# Altium footprint library 4.00-1.27mm排针-排母.PcbLib: 14 footprints
Each footprint in its own frame and in the unit in brackets; x right, y up, seen from the top. Pads: shape width x height; smd on the part's side, far side on the other; paste and mask are expansions set on the pad; w line width, h text height; cw(c..) or ccw(c..) is an arc to the next point about the centre after c.
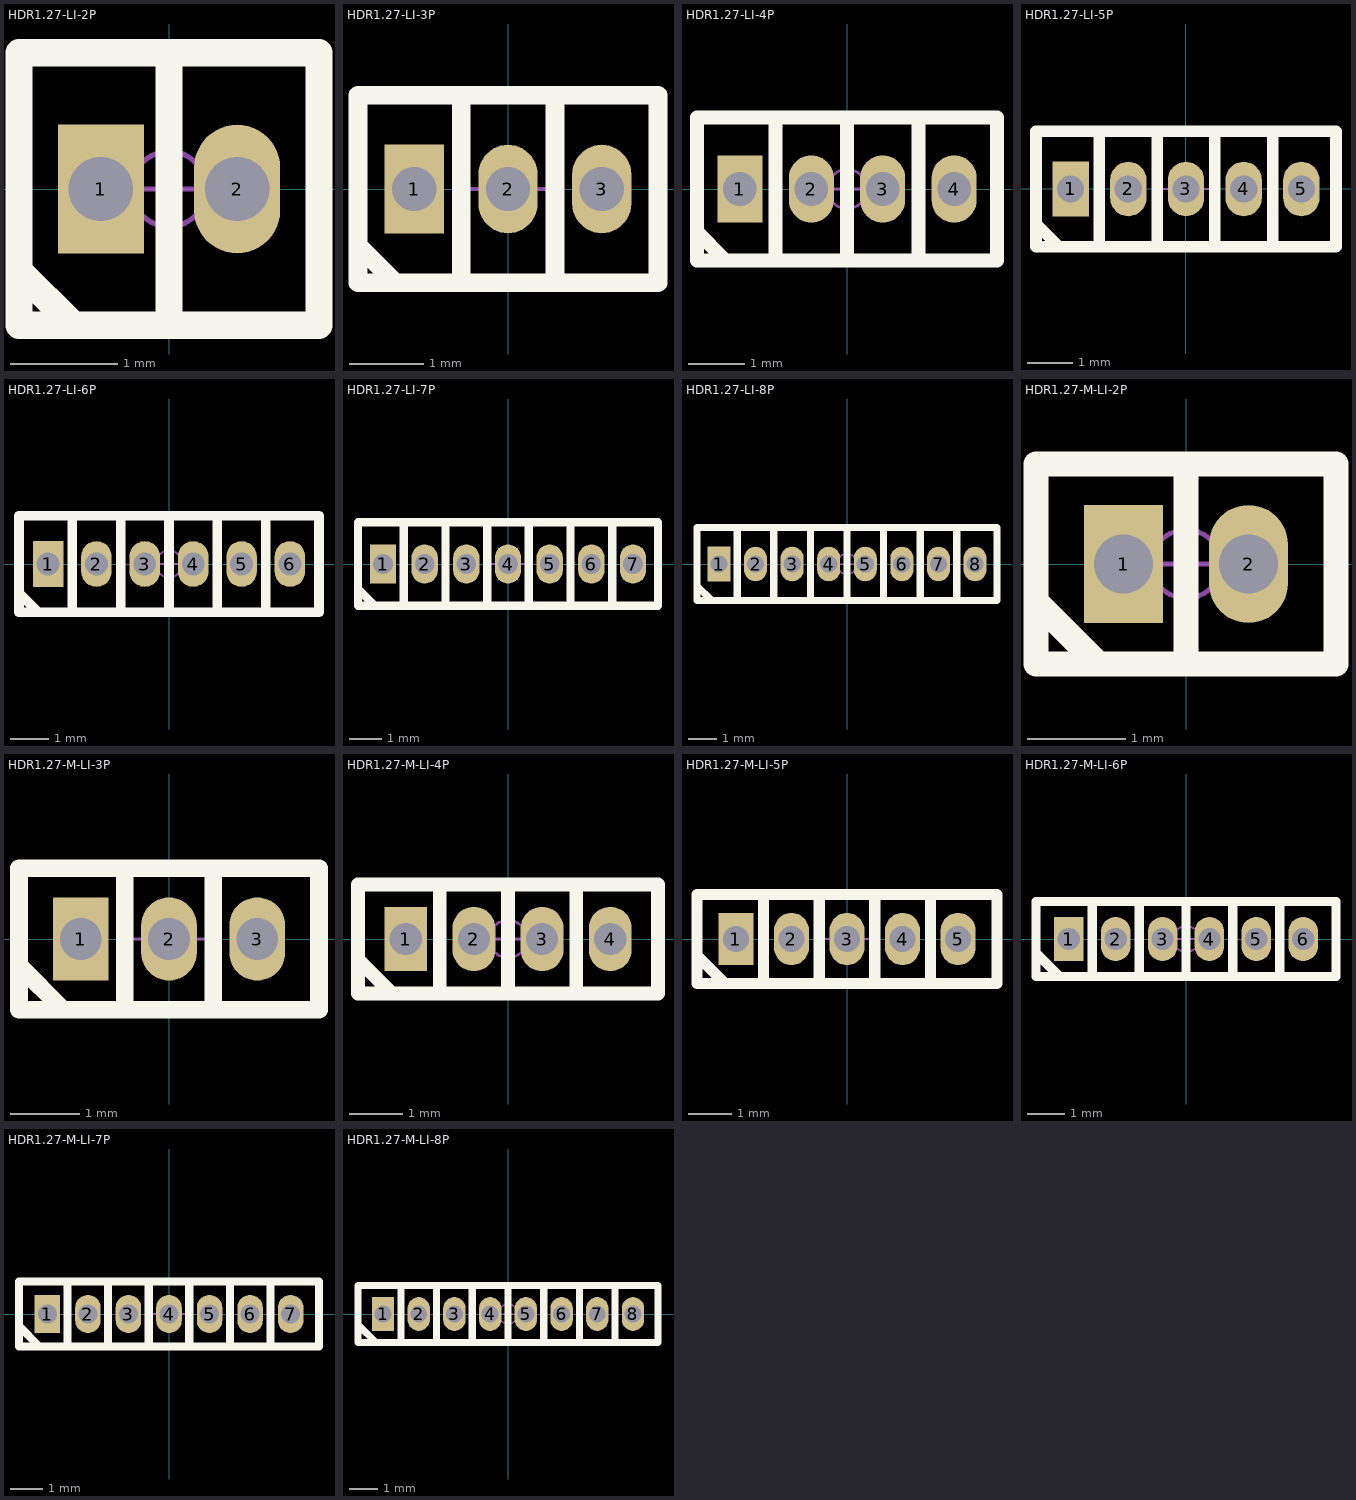
[diagram p0: the footprints below, top view; thin cyan lines are the x and y axes]

## HDR1.27-LI-2P [mm] "直插，脚距：1.27mm 封装库来自淘宝卖家 ID：黄晶宝石"
pads (2):
  rect 0.8x1.2 hole 0.6: 1(-0.635,0)
  oval 0.8x1.2 hole 0.6: 2(0.635,0)
Top Overlay:
  lines w0.254: -1.397,-0.762 -0.889,-1.27 ; 0,-1.27 0,1.27 ; -1.397,-1.27 1.397,-1.27 1.397,1.27 -1.397,1.27 -1.397,-1.27
Mechanical 15:
  circle w0.05: c0,0 r0.35
  lines w0.05: -0.5,0 0.5,0 ; 0,-0.5 0,0.5
3D body "HDR1.27-LI-2P.STEP": height 4.48, standoff -2.72, extent -1.27,-1.2 1.27,1.2

## HDR1.27-LI-3P [mm] "直插，脚距：1.27mm      封装库来自淘宝卖家 ID：黄晶宝石"
pads (3):
  rect 0.8x1.2 hole 0.6: 1(-1.27,0)
  oval 0.8x1.2 hole 0.6: 2(0,0) 3(1.27,0)
Top Overlay:
  lines w0.254: -2.032,-0.762 -1.524,-1.27 ; -0.635,-1.27 -0.635,1.27 ; 0.635,-1.27 0.635,1.2 ; -2.032,-1.27 2.032,-1.27 2.032,1.27 -2.032,1.27 -2.032,-1.27
Mechanical 15:
  circle w0.05: c0,0 r0.35
  lines w0.05: -0.5,0 0.5,0 ; 0,-0.5 0,0.5
3D body "HDR1.27-LI-3P.STEP": height 4.48, standoff -2.72, extent -1.905,-1.2 1.905,1.2

## HDR1.27-LI-4P [mm] "直插，脚距：1.27mm  封装库来自淘宝卖家 ID：黄晶宝石"
pads (4):
  rect 0.8x1.2 hole 0.6: 1(-1.905,0)
  oval 0.8x1.2 hole 0.6: 2(-0.635,0) 3(0.635,0) 4(1.905,0)
Top Overlay:
  lines w0.254: -2.667,-0.762 -2.159,-1.27 ; -1.27,-1.27 -1.27,1.27 ; 0,-1.27 0,1.2 ; 1.27,-1.2 1.27,1.27 ; -2.667,-1.27 -2.667,1.27 2.667,1.27 2.667,-1.27 -2.667,-1.27
Mechanical 15:
  circle w0.05: c0,0 r0.35
  lines w0.05: -0.5,0 0.5,0 ; 0,-0.5 0,0.5
3D body "HDR1.27-LI-4P.STEP": height 4.48, standoff -2.72, extent -2.54,-1.235 2.54,1.165

## HDR1.27-LI-5P [mm] "直插，脚距：1.27mm  封装库来自淘宝卖家 ID：黄晶宝石"
pads (5):
  rect 0.8x1.2 hole 0.6: 1(-2.54,0)
  oval 0.8x1.2 hole 0.6: 2(-1.27,0) 3(0,0) 4(1.27,0) 5(2.54,0)
Top Overlay:
  lines w0.254: -3.302,-0.762 -2.794,-1.27 ; -1.905,-1.27 -1.905,1.27 ; -0.635,-1.27 -0.635,1.2 ; 0.635,-1.2 0.635,1.27 ; 1.905,1.27 1.905,-1.235 ; 1.905,-1.235 1.905,-1.235 ; -3.302,-1.27 3.302,-1.27 3.302,1.27 -3.302,1.27 -3.302,-1.27
Mechanical 15:
  circle w0.05: c0,0 r0.35
  lines w0.05: -0.5,0 0.5,0 ; 0,-0.5 0,0.5
3D body "HDR1.27-LI-5P.STEP": height 4.48, standoff -2.72, extent -3.175,-1.2 3.175,1.2

## HDR1.27-LI-6P [mm] "直插，脚距：1.27mm  封装库来自淘宝卖家 ID：黄晶宝石"
pads (6):
  rect 0.8x1.2 hole 0.6: 1(-3.175,0)
  oval 0.8x1.2 hole 0.6: 2(-1.905,0) 3(-0.635,0) 4(0.635,0) 5(1.905,0) 6(3.175,0)
Top Overlay:
  lines w0.254: -3.937,-0.762 -3.429,-1.27 ; -2.54,-1.27 -2.54,1.27 ; -1.27,-1.27 -1.27,1.2 ; 0,-1.2 0,1.27 ; 1.27,1.27 1.27,-1.235 ; 2.54,-1.235 2.54,1.27 ; 1.27,-1.235 1.27,-1.235 ; -3.937,-1.27 3.937,-1.27 3.937,1.27 -3.937,1.27 -3.937,-1.27
Mechanical 15:
  circle w0.05: c0,0 r0.35
  lines w0.05: -0.5,0 0.5,0 ; 0,-0.5 0,0.5
3D body "HDR1.27-LI-6P.STEP": height 4.48, standoff -2.72, extent -3.81,-1.2 3.81,1.2

## HDR1.27-LI-7P [mm] "直插，脚距：1.27mm  封装库来自淘宝卖家 ID：黄晶宝石"
pads (7):
  rect 0.8x1.2 hole 0.6: 1(-3.81,0)
  oval 0.8x1.2 hole 0.6: 2(-2.54,0) 3(-1.27,0) 4(0,0) 5(1.27,0) 6(2.54,0) 7(3.81,0)
Top Overlay:
  lines w0.254: -4.572,-0.762 -4.064,-1.27 ; -3.175,-1.27 -3.175,1.27 ; -1.905,-1.27 -1.905,1.2 ; -0.635,-1.2 -0.635,1.27 ; 0.635,1.27 0.635,-1.235 ; 1.905,-1.235 1.905,1.27 ; 3.175,-1.27 3.175,1.235 ; 0.635,-1.235 0.635,-1.235 ; -4.572,-1.27 -4.572,1.27 4.572,1.27 4.572,-1.27 -4.572,-1.27
Mechanical 15:
  circle w0.05: c0,0 r0.35
  lines w0.05: -0.5,0 0.5,0 ; 0,-0.5 0,0.5
3D body "HDR1.27-LI-7P.STEP": height 4.48, standoff -2.72, extent -4.445,-1.2 4.445,1.2

## HDR1.27-LI-8P [mm] "直插，脚距：1.27mm  封装库来自淘宝卖家 ID：黄晶宝石"
pads (8):
  rect 0.8x1.2 hole 0.6: 1(-4.445,0)
  oval 0.8x1.2 hole 0.6: 2(-3.175,0) 3(-1.905,0) 4(-0.635,0) 5(0.635,0) 6(1.905,0) 7(3.175,0) 8(4.445,0)
Top Overlay:
  lines w0.254: -5.207,-0.762 -4.699,-1.27 ; -3.81,-1.27 -3.81,1.27 ; -2.54,-1.27 -2.54,1.2 ; -1.27,-1.2 -1.27,1.27 ; 0,1.27 0,-1.235 ; 1.27,-1.235 1.27,1.27 ; 2.54,-1.27 2.54,1.235 ; 3.81,-1.235 3.81,1.27 ; 0,-1.235 0,-1.235 ; -5.207,-1.27 5.207,-1.27 5.207,1.27 -5.207,1.27 -5.207,-1.27
Mechanical 15:
  circle w0.05: c0,0 r0.35
  lines w0.05: -0.5,0 0.5,0 ; 0,-0.5 0,0.5
3D body "HDR1.27-LI-8P.STEP": height 4.48, standoff -2.72, extent -5.08,-1.182 5.08,1.218

## HDR1.27-M-LI-2P [mm] "直插，脚距：1.27mm  封装库来自淘宝卖家 ID：黄晶宝石"
pads (2):
  rect 0.8x1.2 hole 0.6: 1(-0.635,0)
  oval 0.8x1.2 hole 0.6: 2(0.635,0)
Top Overlay:
  lines w0.254: -1.524,-0.254 -1.524,-0.381 -0.889,-1.016 ; 0,-1.016 0,1.016 ; -1.524,-1.016 -1.524,1.016 1.524,1.016 1.524,-1.016 -1.524,-1.016
Mechanical 15:
  circle w0.05: c0,0 r0.35
  lines w0.05: -0.5,0 0.5,0 ; 0,-0.5 0,0.5
3D body "HDR1.27-M-LI-2P.STEP": height 4.5, standoff -2.1, extent -1.435,-0.9 1.435,0.9

## HDR1.27-M-LI-3P [mm] "直插，脚距：1.27mm   封装库来自淘宝卖家 ID：黄晶宝石"
pads (3):
  rect 0.8x1.2 hole 0.6: 1(-1.27,0)
  oval 0.8x1.2 hole 0.6: 2(0,0) 3(1.27,0)
Top Overlay:
  lines w0.254: -2.159,-0.254 -2.159,-0.381 -1.524,-1.016 ; -0.635,-1.016 -0.635,1.016 ; 0.635,-1.016 0.635,1.016 ; -2.159,-1.016 2.159,-1.016 2.159,1.016 -2.159,1.016 -2.159,-1.016
Mechanical 15:
  circle w0.05: c0,0 r0.35
  lines w0.05: -0.5,0 0.5,0 ; 0,-0.5 0,0.5
3D body "HDR1.27-M-LI-3P.STEP": height 4.5, standoff -2.1, extent -2.07,-0.9 2.07,0.9

## HDR1.27-M-LI-4P [mm] "直插，脚距：1.27mm   封装库来自淘宝卖家 ID：黄晶宝石"
pads (4):
  rect 0.8x1.2 hole 0.6: 1(-1.905,0)
  oval 0.8x1.2 hole 0.6: 2(-0.635,0) 3(0.635,0) 4(1.905,0)
Top Overlay:
  lines w0.254: -2.794,-0.254 -2.794,-0.381 -2.159,-1.016 ; -1.27,-1.016 -1.27,1.016 ; 0,-1.016 0,1.016 ; 1.27,-1.016 1.27,1.016 ; -2.794,-1.016 -2.794,1.016 2.794,1.016 2.794,-1.016 -2.794,-1.016
Mechanical 15:
  circle w0.05: c0,0 r0.35
  lines w0.05: -0.5,0 0.5,0 ; 0,-0.5 0,0.5
3D body "HDR1.27-M-LI-4P.STEP": height 4.5, standoff -2.1, extent -2.705,-0.9 2.705,0.9

## HDR1.27-M-LI-5P [mm] "直插，脚距：1.27mm   封装库来自淘宝卖家 ID：黄晶宝石"
pads (5):
  rect 0.8x1.2 hole 0.6: 1(-2.54,0)
  oval 0.8x1.2 hole 0.6: 2(-1.27,0) 3(0,0) 4(1.27,0) 5(2.54,0)
Top Overlay:
  lines w0.254: -3.429,-0.254 -3.429,-0.381 -2.794,-1.016 ; -1.905,-1.016 -1.905,1.016 ; -0.635,-1.016 -0.635,1.016 ; 0.635,-1.016 0.635,1.016 ; 1.905,-1.016 1.905,1.016 ; -3.429,-1.016 -3.429,1.016 3.429,1.016 3.429,-1.016 -3.429,-1.016
Mechanical 15:
  circle w0.05: c0,0 r0.35
  lines w0.05: -0.5,0 0.5,0 ; 0,-0.5 0,0.5
3D body "HDR1.27-M-LI-5P.STEP": height 4.5, standoff -2.1, extent -3.34,-0.9 3.34,0.9

## HDR1.27-M-LI-6P [mm] "直插，脚距：1.27mm 封装库来自淘宝卖家 ID：黄晶宝石"
pads (6):
  rect 0.8x1.2 hole 0.6: 1(-3.175,0)
  oval 0.8x1.2 hole 0.6: 2(-1.905,0) 3(-0.635,0) 4(0.635,0) 5(1.905,0) 6(3.175,0)
Top Overlay:
  lines w0.254: -4.064,-0.254 -4.064,-0.381 -3.429,-1.016 ; -2.54,-1.016 -2.54,1.016 ; -1.27,-1.016 -1.27,1.016 ; 0,-1.016 0,1.016 ; 1.27,-1.016 1.27,1.016 ; 2.54,-1.016 2.54,1.016 ; -4.064,-1.016 4.064,-1.016 4.064,1.016 -4.064,1.016 -4.064,-1.016
Mechanical 15:
  circle w0.05: c0,0 r0.35
  lines w0.05: -0.5,0 0.5,0 ; 0,-0.5 0,0.5
3D body "HDR1.27-M-LI-6P.STEP": height 4.5, standoff -2.1, extent -3.975,-0.9 3.975,0.9

## HDR1.27-M-LI-7P [mm] "直插，脚距：1.27mm        封装库来自淘宝卖家 ID：黄晶宝石"
pads (7):
  rect 0.8x1.2 hole 0.6: 1(-3.81,0)
  oval 0.8x1.2 hole 0.6: 2(-2.54,0) 3(-1.27,0) 4(0,0) 5(1.27,0) 6(2.54,0) 7(3.81,0)
Top Overlay:
  lines w0.254: -4.699,-0.254 -4.699,-0.381 -4.064,-1.016 ; -3.175,-1.016 -3.175,1.016 ; -1.905,-1.016 -1.905,1.016 ; -0.635,-1.016 -0.635,1.016 ; 0.635,-1.016 0.635,1.016 ; 1.905,-1.016 1.905,1.016 ; 3.175,-1.016 3.175,1.016 ; -4.699,-1.016 -4.699,1.016 4.699,1.016 4.699,-1.016 -4.699,-1.016
Mechanical 15:
  circle w0.05: c0,0 r0.35
  lines w0.05: -0.5,0 0.5,0 ; 0,-0.5 0,0.5
3D body "HDR1.27-M-LI-7P.STEP": height 4.5, standoff -2.1, extent -4.61,-0.9 4.61,0.9

## HDR1.27-M-LI-8P [mm] "直插，脚距：1.27mm   封装库来自淘宝卖家 ID：黄晶宝石"
pads (8):
  rect 0.8x1.2 hole 0.6: 1(-4.445,0)
  oval 0.8x1.2 hole 0.6: 2(-3.175,0) 3(-1.905,0) 4(-0.635,0) 5(0.635,0) 6(1.905,0) 7(3.175,0) 8(4.445,0)
Top Overlay:
  lines w0.254: -5.334,-0.254 -5.334,-0.381 -4.699,-1.016 ; -3.81,-1.016 -3.81,1.016 ; -2.54,-1.016 -2.54,1.016 ; -1.27,-1.016 -1.27,1.016 ; 0,-1.016 0,1.016 ; 1.27,-1.016 1.27,1.016 ; 2.54,-1.016 2.54,1.016 ; 3.81,-1.016 3.81,1.016 ; -5.334,-1.016 5.334,-1.016 5.334,1.016 -5.334,1.016 -5.334,-1.016
Mechanical 15:
  circle w0.05: c0,0 r0.35
  lines w0.05: -0.5,0 0.5,0 ; 0,-0.5 0,0.5
3D body "HDR1.27-M-LI-8P.STEP": height 4.5, standoff -2.1, extent -5.245,-0.9 5.245,0.9